# EAGLE library part TXB0106 (library Bauteile)
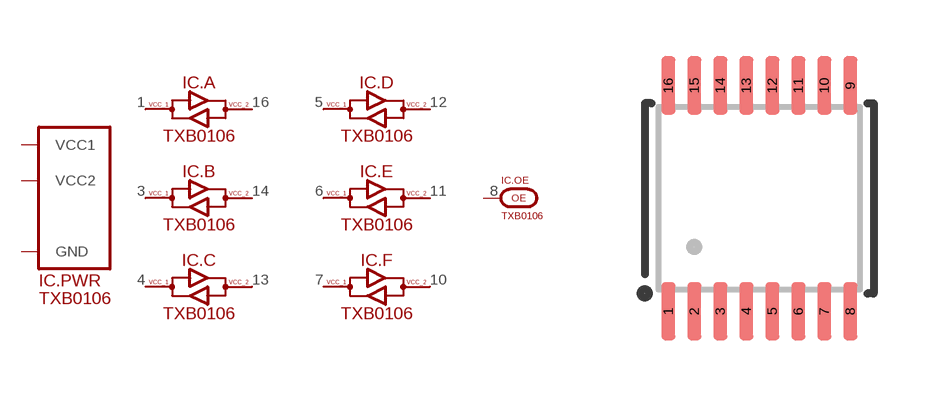
[diagram p113: symbol with the pads of TSSOP16; footprint TSSOP16]

Designator prefix IC; gates .PWR=SUPPLY_VCC1/VCC2/GND .OE=PIN_OE .A=LEVEL_SHIFTER_BIDIRECTIONAL .B=LEVEL_SHIFTER_BIDIRECTIONAL .C=LEVEL_SHIFTER_BIDIRECTIONAL .D=LEVEL_SHIFTER_BIDIRECTIONAL .E=LEVEL_SHIFTER_BIDIRECTIONAL .F=LEVEL_SHIFTER_BIDIRECTIONAL

## TXB0106  [TSSOP16]
1  .A:1
2  .PWR:VCC1
3  .B:1
4  .C:1
5  .D:1
6  .E:1
7  .F:1
8  .OE:OE
9  .PWR:GND
10  .F:2
11  .E:2
12  .D:2
13  .C:2
14  .B:2
15  .PWR:VCC2
16  .A:2

## Footprint TSSOP16 (pad centres in mm)
smd 0.35 x 1.45: 1 -2.275,-2.825; 2 -1.625,-2.825; 3 -0.975,-2.825; 4 -0.325,-2.825; 5 0.325,-2.825; 6 0.975,-2.825; 7 1.625,-2.825; 8 2.275,-2.825; 9 2.275,2.825; 10 1.625,2.825; 11 0.975,2.825; 12 0.325,2.825; 13 -0.325,2.825; 14 -0.975,2.825; 15 -1.625,2.825; 16 -2.275,2.825